# Altium schematic symbol library Schlib_Broadcom.SchLib: 3 symbols
Pins are listed as number, name and electrical type; pins without a type are passive.

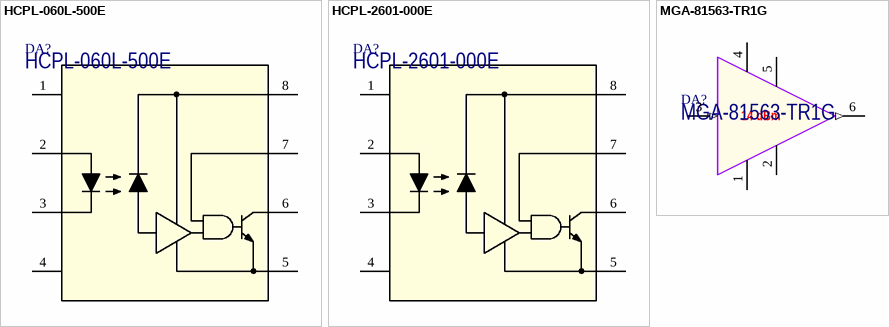
[diagram p0: symbols HCPL-060L-500E to MGA-81563-TR1G]

## HCPL-060L-500E
designator DA?
High Speed LVTTL Compatible 3.3 V Optocouplers; Manufacturer: Broadcom Limited; Package: SO-8 Tall; Part Number: HCPL-060L-500E
footprint SO8-HCPL
pins: 1 NC, 2 ANODE, 3 CATHODE (power), 4 NC, 5 GND (power), 6 Vo, 7 VE (power), 8 VCC (power)

## HCPL-2601-000E
designator DA?
Single-Channel High-Speed 10 MBit/s Logic Gate Optocouplers; Manufacturer: Broadcom Limited; Package: DIP-8; Part Number: HCPL-2601-000E
footprint DIP-8P-M01 (Plastic DIP, 8 pin, lead pitch 2.54mm (0.1"), row spacing 7.62mm (0.3").)
pins: 1 NC, 2 ANODE1, 3 CATHODE1 (power), 4 NC, 5 GND (power), 6 Vo, 7 VE (power), 8 VCC (power)

## MGA-81563-TR1G
designator DA?
0.1–6 GHz 3 V, 14 dBm Amplifier; Manufacturer: Broadcom Limited; Part Number: MGA-81563-TR1G; Package: SC70-6
footprint SC70-6
pins: 1 GND (power), 2 GND (power), 3 IN (in), 4 GND (power), 5 GND (power), 6 OUT_AND_VP (out)
text: 14 dBm